# Altium schematic symbol library SKRPANE010.SchLib: 1 symbol
Pins are listed as number, name and electrical type; pins without a type are passive.

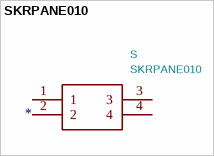
[diagram p0: symbol SKRPANE010]

## SKRPANE010
designator S  value SKRPANE010
Tactile Switches 500mOhm 1.57N 16VDC 4.2X3.2X2.5MM 50mA; Manufacturer_Name: ALPS; Footprint: SKRPADE010; Supplier: https://www.alps.com/prod/info/E/HTML/Tact/SurfaceMount/SKRP/SKRPANE010.html; Description_: Tactile Switches 500mOhm 1.57N 16VDC 4.2X3.2X2.5MM 50mA; Height: 2; Manufacturer_Part_Number: SKRPANE010; Mouser Part Number: 688-SKRPANE010; Mouser Price/Stock: https://www.mouser.com/Search/Refine.aspx?Keyword=688-SKRPANE010
footprint SKRPADE010
pins: 1, 2, 3, 4